# Altium footprint library MicroUSB2.0TypeAB.PcbLib: 2 footprints
Each footprint in its own frame and in the unit in brackets; x right, y up, seen from the top. Pads: shape width x height; smd on the part's side, far side on the other; paste and mask are expansions set on the pad; w line width, h text height; cw(c..) or ccw(c..) is an arc to the next point about the centre after c.
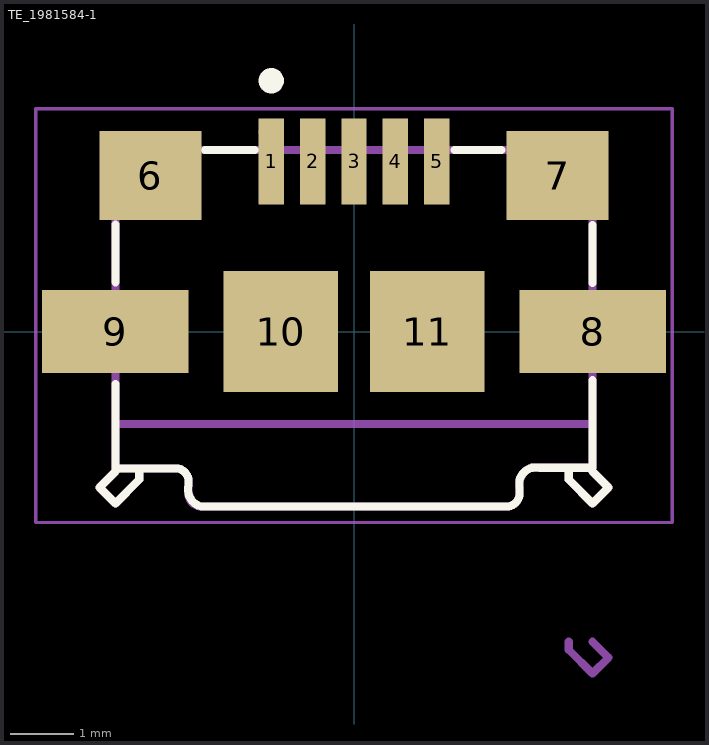
[diagram p0: the footprints below, top view; thin cyan lines are the x and y axes]

## PCBComponent_1 [mm]

## TE_1981584-1 [mm]
pads (11):
  rect 0.4x1.35 smd: 1(-1.3,2.675) 2(-0.65,2.675) 3(0,2.675) 4(0.65,2.675) 5(1.3,2.675)
  rect 1.6x1.4 smd: 6(-3.2,2.45) 7(3.2,2.45)
  rect 2.3x1.3 smd: 8(3.75,0) 9(-3.75,0)
  rect 1.8x1.9 smd: 10(-1.15,0) 11(1.15,0)
Top Overlay:
  circle w0.2: c-1.3,3.941 r0.1
  lines w0.127: -3.75,-2.2 -4,-2.45 -3.75,-2.7 -3.375,-2.325 -3.375,-2.2 ; -3.75,-0.825 -3.75,-2.15 -2.8,-2.15 cw(c-2.8,-2.35) -2.6,-2.35 -2.6,-2.415 ccw(c-2.332,-2.482) -2.399,-2.75 ; -3.75,0.775 -3.75,1.685 ; -2.4,-2.75 2.4,-2.75 ; -2.34,2.85 -1.56,2.85 ; 1.58,2.85 2.32,2.85 ; 2.399,-2.75 ccw(c2.395,-2.545) 2.6,-2.541 ; 2.6,-2.54 2.6,-2.34 ; 2.6,-2.342 cw(c2.863,-2.402) 2.923,-2.14 ; 2.925,-2.14 3.75,-2.14 3.75,-0.765 ; 3.375,-2.2 3.375,-2.325 3.75,-2.7 4,-2.45 3.75,-2.2 ; 3.75,0.765 3.75,1.675
Mechanical 4:
  circle w0.2: c-1.3,3.136 r0.1
  circle w0.2: c-1.3,3.136 r0.1
  lines w0.127: -4,-2.45 -3.75,-2.7 ; -4,-2.45 -3.75,-2.2 -4,-2.45 ; -4,-2.45 -3.75,-2.7 ; -3.98,-0.415 -3.78,-0.415 -3.98,-0.415 ; -3.98,-0.415 -3.98,0.445 ; -3.98,-0.415 -3.98,0.445 ; -3.98,0.445 -3.76,0.445 -3.98,0.445 ; -3.75,-2.7 -3.375,-2.325 ; -3.75,-2.7 -3.375,-2.325 ; -3.75,-2.15 -2.8,-2.15 ; -3.75,-2.15 -3.75,-1.45 ; -3.75,-2.15 -2.8,-2.15 ; -3.75,-2.15 -3.75,-1.45 ; -3.75,-1.45 3.75,-1.45 ; -3.75,-1.45 -3.75,2.85 ; -3.75,-1.45 3.75,-1.45 ; -3.75,-1.45 -3.75,2.85 ; -3.75,2.85 3.75,2.85 ; -3.75,2.85 3.75,2.85 ; -3.375,-2.325 -3.375,-2.2 -3.375,-2.325 ; -2.8,-2.15 cw(c-2.8,-2.35) -2.6,-2.35 ; -2.8,-2.15 cw(c-2.8,-2.35) -2.6,-2.35 ; -2.6,-2.55 ccw(c-2.4,-2.55) -2.4,-2.75 ; -2.6,-2.55 ccw(c-2.4,-2.55) -2.4,-2.75 ; -2.6,-2.55 -2.6,-2.35 ; -2.6,-2.55 -2.6,-2.35 ; -2.4,-2.75 2.4,-2.75 ; -2.4,-2.75 2.4,-2.75 ; 2.4,-2.75 ccw(c2.4,-2.55) 2.6,-2.55 ; 2.4,-2.75 ccw(c2.4,-2.55) 2.6,-2.55 ; 2.6,-2.55 2.6,-2.465 2.6,-2.55 ; 3.375,-5 3.375,-4.875 3.375,-5 ; 3.375,-5 3.75,-5.375 ; 3.375,-5 3.75,-5.375 ; 3.375,-2.325 3.375,-2.2 3.375,-2.325 ; 3.375,-2.325 3.75,-2.7 ; 3.375,-2.325 3.75,-2.7 ; 3.75,-5.375 4,-5.125 ; 3.75,-5.375 4,-5.125 ; 3.75,-2.7 4,-2.45 ; 3.75,-2.7 4,-2.45 ; 3.75,-2.14 2.8,-2.14 3.75,-2.14 ; 3.75,-2.14 3.75,-1.45 ; 3.75,-2.14 3.75,-1.45 ; 3.75,-1.45 3.75,2.85 ; 3.75,-1.45 3.75,2.85 ; 4,-5.125 3.75,-4.875 4,-5.125 ; 4,-2.45 3.75,-2.2 4,-2.45 ; 4.02,-0.435 3.77,-0.435 4.02,-0.435 ; 4.02,-0.435 4.02,0.425 ; 4.02,-0.435 4.02,0.425 ; 4.02,0.425 3.76,0.425 4.02,0.425 ; 2.6,-2.463 cw(c2.863,-2.402) 2.802,-2.14 ccw(c2.863,-2.402) 2.6,-2.463
  text "PCB EDGE" at -1.145,-2.277 h1.88
  text "PCB EDGE" at -1.145,-2.277 h1.88
Mechanical 16:
  lines w0.05: -5,-3 5,-3 5,3.5 -5,3.5 -5,-3